# EAGLE library part TRENNSCHALTER_3-POL_KOLBENANTRIEB (library e-schalter)
Trennschalter, 3-pol. mit Kolbenantrieb
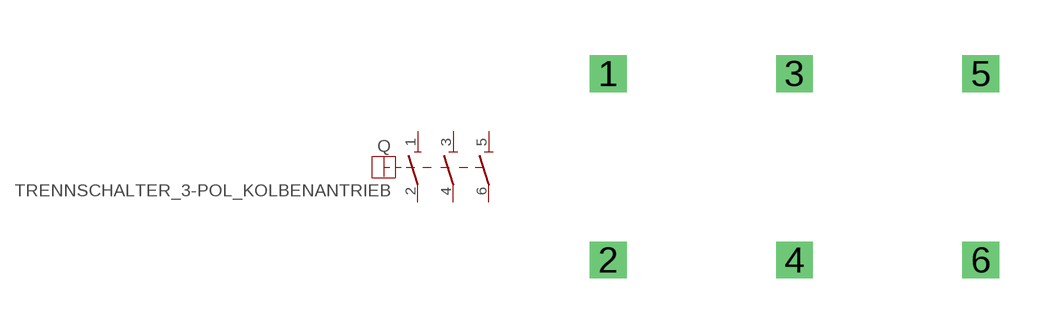
[diagram p0: symbol with the pads of TRENNSCHALTER_KOLBENANTRIEB_3-POL; footprint TRENNSCHALTER_KOLBENANTRIEB_3-POL]

Designator prefix Q

## TRENNSCHALTER_3-POL_KOLBENANTRIEB  [TRENNSCHALTER_KOLBENANTRIEB_3-POL]
1  1  pas
2  2  pas
3  3  pas
4  4  pas
5  5  pas
6  6  pas

## Footprint TRENNSCHALTER_KOLBENANTRIEB_3-POL (pad centres in mm)
Dummy
drill 0.5 pad 1 square: 1 -5.08,2.54; 2 -5.08,-2.54; 3 0,2.54; 4 0,-2.54; 5 5.08,2.54; 6 5.08,-2.54